# Altium footprint library 3sot23.PcbLib: 1 footprints
Each footprint in its own frame and in the unit in brackets; x right, y up, seen from the top. Pads: shape width x height; smd on the part's side, far side on the other; paste and mask are expansions set on the pad; w line width, h text height; cw(c..) or ccw(c..) is an arc to the next point about the centre after c.
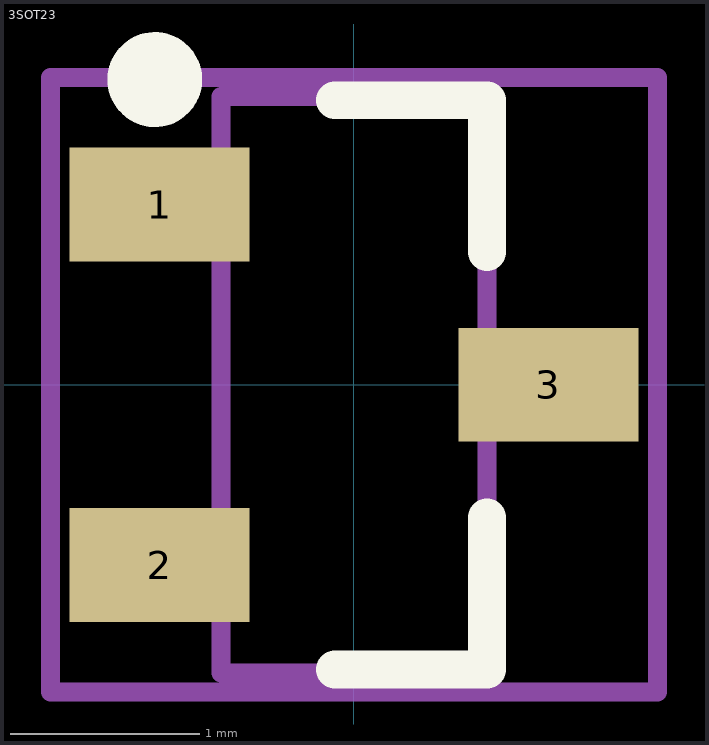
[diagram p0: the footprint, top view; thin cyan lines are the x and y axes]

## 3SOT23 [mm] "SOT23, 3-Leads, Body 3.0x2.6mm (max), Pitch 1.01mm, IPC High Density"
height 1.12
pads (3):
  rect 0.95x0.6 smd: 1(-1.025,0.95) 2(-1.025,-0.95) 3(1.025,0)
Top Overlay:
  circle w0.25: c-1.05,1.609 r0.125
  lines w0.2: -0.1,-1.5 0.7,-1.5 0.7,-0.7 ; -0.1,1.5 0.7,1.5 0.7,0.7
Top 3D Body:
  lines w0.1: -0.7,-1.52 -0.7,1.52 0.7,1.52 0.7,-1.52 -0.7,-1.52
Top Courtyard:
  lines w0.1: -1.6,-1.62 -1.6,1.62 1.6,1.62 1.6,-1.62 -1.6,-1.62
Top Designator (Mech17):
  text ".Designator" at -0.175,1.075 h0.5
3D body "User Library-SOT-23-3.STEP": height 1.01, standoff 0, extent -1.25,-1.5 1.25,1.5